# Altium schematic symbol library PWM Driver.SCHLIB: 11 symbols
Pins are listed as number, name and electrical type; pins without a type are passive.

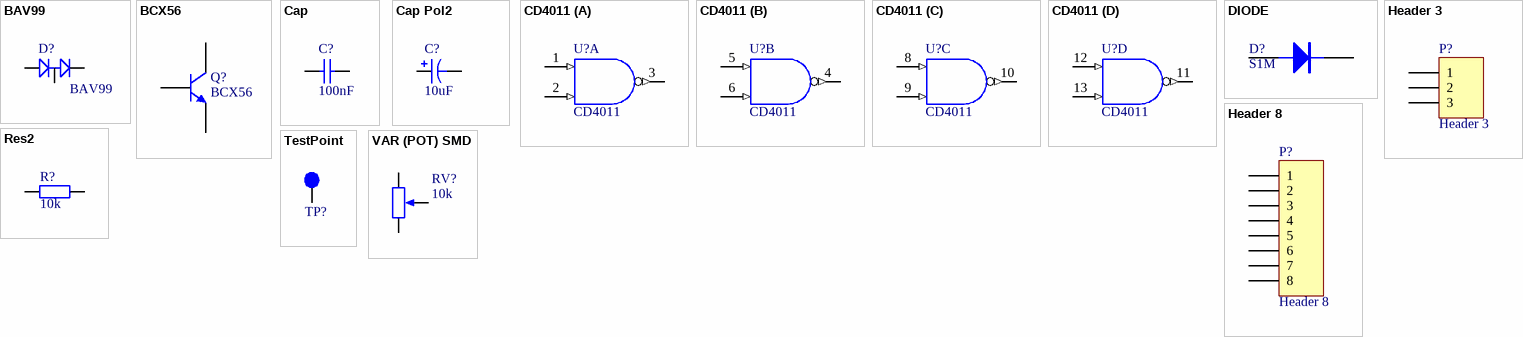
[diagram p0: symbols BAV99 to VAR (POT) SMD]

## BAV99
designator D?
DUAL DIODE, BAV99; Manufacturer: FAIRCHILD SEMICONDUCTOR; Mouser Part no.: 771-BAV99/T3; Farnell Part no.: 9843612; Manufacturer Part No.: BAV99; PackageReference: SOT-23; value: BAV99; Web link: http://au.mouser.com/ProductDetail/NXP-Semiconductors/BAV99-T3/?qs=sGAEpiMZZMtldOIVIVqa3WNg7zlWz8nBhXHsMX6ttIg%3d
footprint SOT23-3L (SOT23, 3-Leads, Body 2.9x1.3mm, Pitch 0.95mm, Lead Span 2.5mm, IPC High Density)
pins: 1 A1, 2 C2, 3 C1/A2

## BCX56
designator Q?
PNP Bipolar Transistor; Revision: July-2002: Re-released for DXP Platform.
simulation model PNP
signal-integrity model PNP
footprint SOT89
pins: 2 C, 3 E, 3 B

## Cap
designator C?, comment 100nF
Capacitor; Value: 100nF; Supplier 1: Mouser; Supplier 2: Digi-Key; Supplier Part Number 1: 603-C0603ZRY5V9BB104; Supplier Part Number 2: 311-1343-2-ND
simulation model CAP (Capacitor)
signal-integrity model Cap
footprint CAP (3D) - 0805
pins: 1, 2

## Cap Pol2
designator C?  value 10uF
Polarized Capacitor (Axial); Published: 8-Jun-2000; LatestRevisionDate: 17-Jul-2002; LatestRevisionNote: Re-released for DXP Platform.; PackageReference: POLAR0.8; Publisher: Altium Limited; PackageDescription: Polarized Capacitor; 2 Leads
simulation model CAP (Capacitor)
signal-integrity model Cap Pol
footprint RB5-10.5 (Capacitor (Radial); 2 Leads)
pins: 1, 2
1 alternate drawing of the same symbol

## CD4011
designator U?
Quadruple 2-Input Positive-NAND Gate
footprint SOIC-14 (SOIC-14  NARROW BODY)
pins on every part: 7 GND (power) hidden to GND, 14 VCC (power) hidden to VCC
part A pins: 1 A (in), 2 B (in), 3 Y (out)
part B pins: 4 Y (out), 5 A (in), 6 B (in)
part C pins: 8 A (in), 9 B (in), 10 Y (out)
part D pins: 11 Y (out), 12 A (in), 13 B (in)

## DIODE
designator D?, comment S1M
DIODE, POWER; Manufacturer: TAIWAN SEMI; Mouser Part no.: 821-S1M; Manufacturer Part No.: S1M; value: S1M; Web link: http://au.mouser.com/ProductDetail/Taiwan-Semiconductor/S1M/?qs=sGAEpiMZZMtEwUVCuofpuOlSmRjzJonf%252bmrIm0%252bGbjE%3d
footprint DO-214AC
pins: 1 A, 2 K

## Header 3
designator P?
Header, 3-Pin; LatestRevisionDate: 17-Jul-2002; LatestRevisionNote: Re-released for DXP Platform.; Publisher: Altium Limited
footprint HDR1X3 (Connector; Header; 3 Position)
signal-integrity model Connector
footprint TAIL (Connector; Header; 3 Position)
pins: 1, 2, 3

## Header 8
designator P?
Header, 8-Pin; LatestRevisionDate: 17-Jul-2002; LatestRevisionNote: Re-released for DXP Platform.; Publisher: Altium Limited
footprint HDR1X8 (Connector; Header; 8 Position)
signal-integrity model Connector
pins: 1, 2, 3, 4, 5, 6, 7, 8

## Res2
designator R?  value 10k  (hidden comment: Res2)
Resistor
simulation model RESISTOR (Resistor)
signal-integrity model Res
footprint RES (3D) - 0805
pins: 1, 2

## TestPoint
designator TP?  (value not drawn)
footprint TP_TH
pins: 1

## VAR (POT) SMD
designator RV?, comment 10k
Variable Resistor; Manufacturer: Bourns; Manufacturer Part No.: CR0603FX-1002ELF; Value: 10k; Mouser Part no.: 652-CR0603FX-1002ELF; Web link: http://au.mouser.com/Search/Refine.aspx?Keyword=652-CR0603FX-1002ELF
simulation model VRES (Variable Resistor)
signal-integrity model Res Adj
footprint TRIMPOT (10 TURN) (Thru-Hole; 3 Leads)
pins: 1, 2, 3